# Altium footprint library MICRO-USB-SMD_MICRO-USB-A7_2021-12-13.PcbLib: 1 footprints
Each footprint in its own frame and in the unit in brackets; x right, y up, seen from the top. Pads: shape width x height; smd on the part's side, far side on the other; paste and mask are expansions set on the pad; w line width, h text height; cw(c..) or ccw(c..) is an arc to the next point about the centre after c.
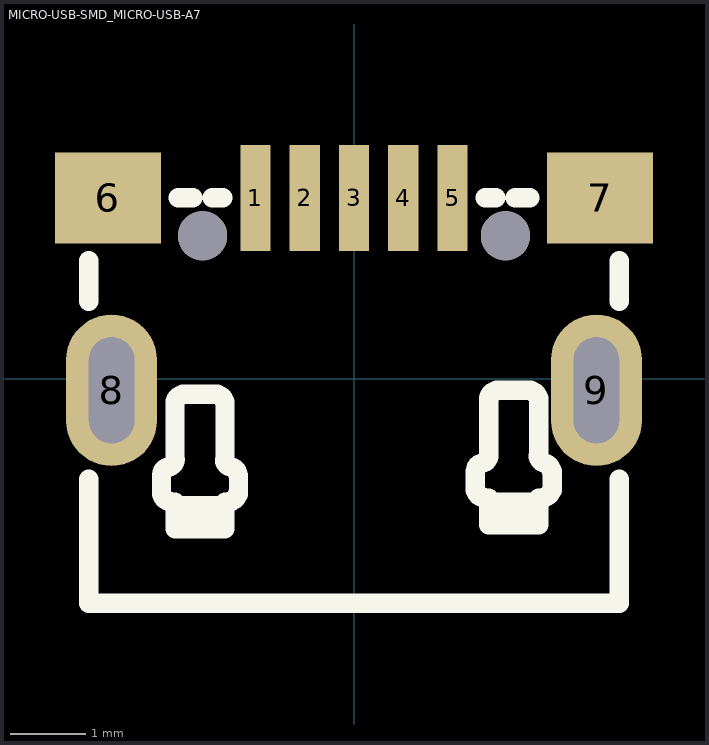
[diagram p0: the footprint, top view; thin cyan lines are the x and y axes]

## MICRO-USB-SMD_MICRO-USB-A7 [mm]
pads (11):
  rect 0.4x1.4 smd: 1(-1.3,2.388) 2(-0.65,2.388) 3(0,2.388) 4(0.65,2.388) 5(1.3,2.388)
  rect 1.4x1.2 smd: 6(-3.25,2.388) 7(3.25,2.388)
  oval 1.2x2 hole 0.6 slot 1.4 at 90 deg: 8(-3.2,-0.152) 9(3.2,-0.152)
  round 0.65 hole 0.65 unplated: ""(-1.999,1.888) ""(1.999,1.888)
Top Overlay:
  lines w0.254: -3.5,-1.327 -3.5,-2.962 3.5,-2.962 3.5,-1.327 ; -3.5,1.024 -3.5,1.557 ; -2.54,-1.523 -2.54,-1.269 ; -2.537,-1.264 cw(c-2.437,-1.264) -2.437,-1.164 ; -2.535,-1.513 ccw(c-2.435,-1.513) -2.435,-1.613 ; -2.447,-1.163 ccw(c-2.46,-1.064) -2.36,-1.064 ; -2.438,-1.625 -2.362,-1.625 -2.362,-1.676 ; -2.362,-1.066 -2.362,-0.304 ; -2.36,-0.313 cw(c-2.26,-0.313) -2.26,-0.213 ; -2.319,2.388 -2.125,2.388 ; -2.261,-0.202 -1.803,-0.202 ; -1.873,2.388 -1.732,2.388 ; -1.81,-0.213 cw(c-1.81,-0.313) -1.71,-0.313 ; -1.71,-1.064 ccw(c-1.61,-1.064) -1.622,-1.163 ; -1.702,-1.066 -1.702,-0.304 ; -1.636,-1.164 cw(c-1.636,-1.264) -1.536,-1.264 ; -1.634,-1.612 ccw(c-1.634,-1.512) -1.534,-1.512 ; -1.626,-1.625 -1.702,-1.625 -1.702,-1.676 ; -1.524,-1.523 -1.524,-1.269 ; 1.6,-1.472 1.6,-1.218 ; 1.603,-1.213 cw(c1.703,-1.213) 1.703,-1.113 ; 1.605,-1.462 ccw(c1.705,-1.462) 1.705,-1.562 ; 1.693,-1.112 ccw(c1.68,-1.013) 1.78,-1.013 ; 1.702,-1.574 1.778,-1.574 1.778,-1.625 ; 1.732,2.388 1.873,2.388 ; 1.778,-1.015 1.778,-0.253 ; 1.78,-0.262 cw(c1.88,-0.262) 1.88,-0.162 ; 1.88,-0.152 2.337,-0.152 ; 2.125,2.388 2.319,2.388 ; 2.33,-0.162 cw(c2.33,-0.262) 2.43,-0.262 ; 2.43,-1.013 ccw(c2.53,-1.013) 2.518,-1.112 ; 2.438,-1.015 2.438,-0.253 ; 2.504,-1.113 cw(c2.504,-1.213) 2.604,-1.213 ; 2.506,-1.561 ccw(c2.506,-1.461) 2.606,-1.461 ; 2.515,-1.574 2.438,-1.574 2.438,-1.625 ; 2.616,-1.472 2.616,-1.218 ; 3.5,1.024 3.5,1.557 ; -2.362,-1.752 -1.702,-1.752 ; -2.362,-1.752 -2.362,-1.98 -1.702,-1.98 -1.702,-1.752 ; -2.362,-1.752 -2.362,-1.676 ; -2.362,-1.676 -1.702,-1.676 ; -1.702,-1.752 -1.702,-1.676 ; 1.778,-1.701 2.438,-1.701 ; 1.778,-1.701 1.778,-1.93 2.438,-1.93 2.438,-1.701 ; 1.778,-1.701 1.778,-1.625 ; 1.778,-1.625 2.438,-1.625 ; 2.438,-1.701 2.438,-1.625
Top Paste:
  region: 2.55,2.988 3.95,2.988 3.95,1.789 2.55,1.789
  region: -3.95,2.988 -2.55,2.988 -2.55,1.789 -3.95,1.789
  region: 1.101,3.089 1.5,3.089 1.5,1.688 1.101,1.688
  region: 0.45,3.089 0.85,3.089 0.85,1.688 0.45,1.688
  region: -0.2,3.089 0.2,3.089 0.2,1.688 -0.2,1.688
  region: -0.85,3.089 -0.45,3.089 -0.45,1.688 -0.85,1.688
  region: -1.5,3.089 -1.101,3.089 -1.101,1.688 -1.5,1.688
  region: 3.8,-0.552 3.8,-0.671 3.709,-0.891 3.54,-1.06 3.32,-1.152 3.081,-1.152 2.861,-1.06 2.692,-0.891 2.6,-0.671 2.6,-0.552 2.6,0.249 2.6,0.368 2.692,0.588 2.861,0.757 3.081,0.848 3.32,0.848 3.54,0.757 3.709,0.588 3.8,0.368 3.8,0.249
  region: -2.6,-0.552 -2.6,-0.671 -2.692,-0.891 -2.861,-1.06 -3.081,-1.152 -3.32,-1.152 -3.54,-1.06 -3.709,-0.891 -3.8,-0.671 -3.8,-0.552 -3.8,0.249 -3.8,0.368 -3.709,0.588 -3.54,0.757 -3.32,0.848 -3.081,0.848 -2.861,0.757 -2.692,0.588 -2.6,0.368 -2.6,0.249